# Altium footprint library sot23_3.PcbLib: 1 footprints
Each footprint in its own frame and in the unit in brackets; x right, y up, seen from the top. Pads: shape width x height; smd on the part's side, far side on the other; paste and mask are expansions set on the pad; w line width, h text height; cw(c..) or ccw(c..) is an arc to the next point about the centre after c.
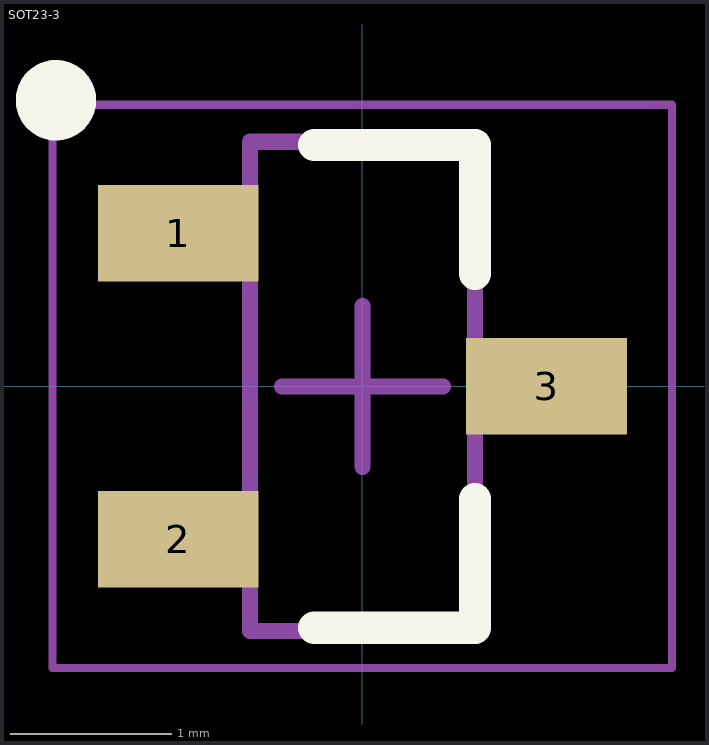
[diagram p0: the footprint, top view; thin cyan lines are the x and y axes]

## SOT23-3 [mm] "SOT23, 3-Leads, Body 2,92x2,37mm"
height 1.12
pads (3):
  rect 1x0.6 smd: 1(-1.145,0.95) 2(-1.145,-0.95) 3(1.145,0)
Top Overlay:
  circle w0.25: c-1.905,1.778 r0.125
  lines w0.2: -0.3,-1.5 0.7,-1.5 0.7,-0.7 ; -0.3,1.5 0.7,1.5 0.7,0.7
Mechanical 7:
  text ".Comment" at 1.397,2.54 h1.2
Mechanical 9:
  text ".Designator" at 0,2.54 h1.2
Mechanical 11 (Mech11):
  lines w0.1: -0.7,-1.52 0.7,-1.52 0.7,1.52 -0.7,1.52 -0.7,-1.52
Mechanical 15:
  lines w0.05: -1.925,-1.75 1.925,-1.75 1.925,1.75 -1.925,1.75 -1.925,-1.75
  lines w0.1: -0.5,0 0.5,0 ; 0,-0.5 0,0.5
3D body "SOT-23-3-1.STEP": height 1.1, standoff 0, extent -1.25,-1.5 1.25,1.5